# Altium schematic symbol library KF301_2P.SCHLIB: 1 symbol
Pins are listed as number, name and electrical type; pins without a type are passive.

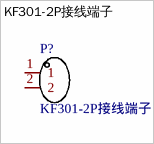
[diagram p0: symbol KF301-2P接线端子]

## KF301-2P接线端子
designator P?
Add into BOM: yes; Symbol: KF301-2P接线端子; Device: KF301-2P接线端子; LCSC Part Name: KF301-2P接线端子; Supplier Part: C9900016950; Manufacturer Part: KF301-2P接线端子; Supplier Footprint: CK301-2P; JLCPCB Part Class: 扩展库; Datasheet: https://atta.szlcsc.comnull; Supplier: LCSC; Convert to PCB: yes; Name: KF301-2P接线端子
footprint CONN-TH_XY301V-A-5.0-2P
3D model CONN-TH_XY301V-A-5.0-2P
pins: 1, 2